# Altium footprint library 晶振.PcbLib: 6 footprints
Each footprint in its own frame and in the unit in brackets; x right, y up, seen from the top. Pads: shape width x height; smd on the part's side, far side on the other; paste and mask are expansions set on the pad; w line width, h text height; cw(c..) or ccw(c..) is an arc to the next point about the centre after c.
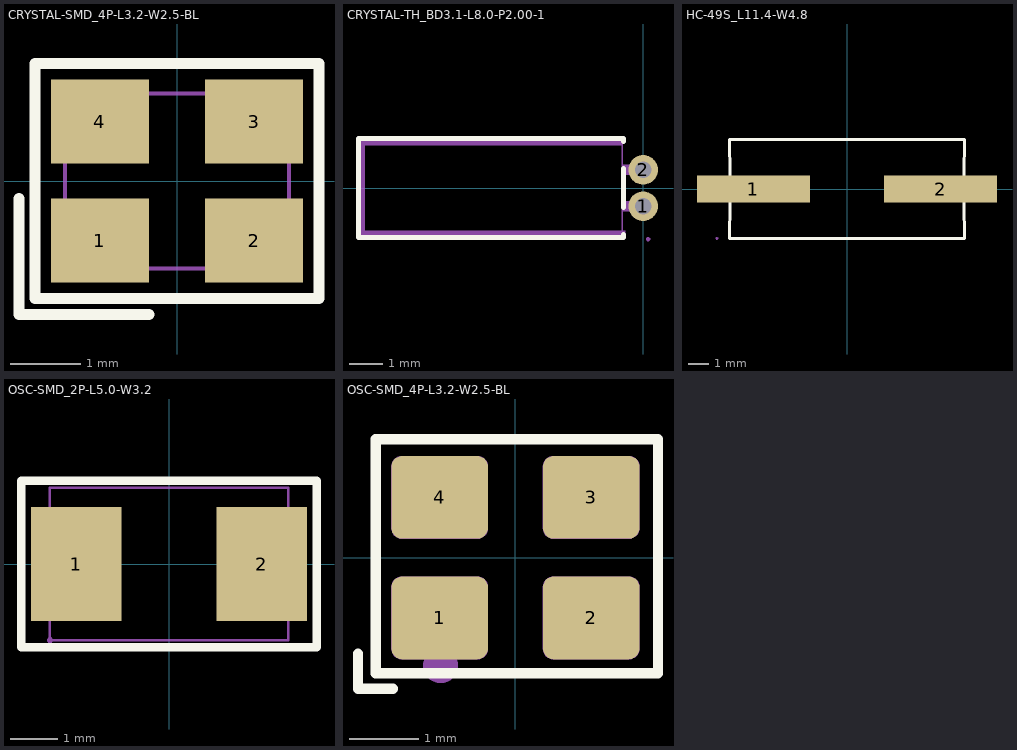
[diagram p0: the footprints below, top view; thin cyan lines are the x and y axes]

## CRYSTAL-SMD_4P-L3.2-W2.5-BL [mm]
pads (4):
  rect 1.4x1.2 smd: 1(-1.1,-0.85) 2(1.1,-0.85) 3(1.1,0.85) 4(-1.1,0.85)
Top Overlay:
  lines w0.152: -2.257,-0.25 -2.257,-1.907 -0.4,-1.907 ; -2.029,-1.678 2.029,-1.678 2.029,1.679 -2.029,1.679 -2.029,-1.678
Mechanical 6:
  circle w0.36: c-1.143,-0.889 r0.18
Mechanical 15:
  region: -1.5,-0.35 -0.6,-0.35 -0.6,-1.15 -1.5,-1.15
  region: 0.6,-0.35 1.5,-0.35 1.5,-1.15 0.6,-1.15
  region: 0.6,1.15 1.5,1.15 1.5,0.35 0.6,0.35
  region: -1.5,1.15 -0.6,1.15 -0.6,0.35 -1.5,0.35
  region: -1.54,-1.25 -1.54,-1.225 -1.575,-1.19 -1.625,-1.19 -1.66,-1.225 -1.66,-1.25 -1.66,-1.275 -1.625,-1.31 -1.575,-1.31 -1.54,-1.275 -1.54,-1.25
  lines w0.051: -1.6,-1.25 1.6,-1.25 1.6,1.25 -1.6,1.25 -1.6,-1.25

## CRYSTAL-TH_BD3.1-L8.0-P2.00-1 [mm]
pads (2):
  round 0.9 hole 0.5 paste+0 mask+0.05: 1(0,-0.55) 2(0,0.55)
Top Overlay:
  lines w0.152: -0.6,-1.414 -0.6,-1.5 -4.064,-1.5 -8.636,-1.5 -8.636,1.5 -4.064,1.5 -0.6,1.5 -0.6,1.414 ; -0.6,-0.586 -0.6,0.586
Mechanical 6:
  region: -0.648,1.5 -8.648,1.5 -8.648,-1.5 -0.548,-1.5 -0.548,-1.3 -8.448,-1.3 -8.448,1.3 -0.648,1.3
Mechanical 15:
  region: 0.21,-1.55 0.21,-1.525 0.175,-1.49 0.125,-1.49 0.09,-1.525 0.09,-1.55 0.09,-1.575 0.125,-1.61 0.175,-1.61 0.21,-1.575 0.21,-1.55
  region: 0.15,0.55 0.15,0.612 0.062,0.7 -0.062,0.7 -0.15,0.612 -0.15,0.55 -0.15,0.488 -0.062,0.4 0.062,0.4 0.15,0.488 0.15,0.55
  region: 0.15,-0.55 0.15,-0.488 0.062,-0.4 -0.062,-0.4 -0.15,-0.488 -0.15,-0.55 -0.15,-0.612 -0.062,-0.7 0.062,-0.7 0.15,-0.612 0.15,-0.55
  region: 0.15,0.4 -0.65,0.4 -0.65,0.7 0.15,0.7
  region: 0.15,-0.7 -0.65,-0.7 -0.65,-0.4 0.15,-0.4
  lines w0.051: -8.636,-1.55 -8.636,1.55 -0.636,1.55 -0.636,-1.55 -8.636,-1.55

## HC-49S_L11.4-W4.8 [mm]
pads (2):
  rect 5.5x1.3 smd: 1(-4.553,0) 2(4.553,0)
Top Overlay:
  lines w0.152: -5.715,-2.413 -5.7,-0.662 -5.715,-2.413 ; -5.715,-2.413 5.715,-2.413 ; -5.715,-2.413 5.715,-2.413 ; -5.715,2.413 5.715,2.413 ; -5.715,2.413 -5.7,0.662 -5.715,2.413 ; -5.715,2.413 5.715,2.413 ; 5.715,-2.413 5.7,-0.662 5.715,-2.413 ; 5.715,2.413 5.7,0.662 5.715,2.413
Mechanical 15:
  region: -6.28,-2.4 -6.28,-2.375 -6.315,-2.34 -6.365,-2.34 -6.4,-2.375 -6.4,-2.4 -6.4,-2.425 -6.365,-2.46 -6.315,-2.46 -6.28,-2.425 -6.28,-2.4
  region: -1.84,-0.4 -6.34,-0.4 -6.34,0.4 -1.84,0.4
  region: 6.34,-0.4 1.84,-0.4 1.84,0.4 6.34,0.4
  lines w0.051: -5.7,-2.4 5.7,-2.4 5.7,2.4 -5.7,2.4 -5.7,-2.4

## OSC-SMD_2P-L5.0-W3.2 [mm]
pads (2):
  rect 1.9x2.4 smd: 1(-1.95,0) 2(1.95,0)
Top Overlay:
  lines w0.18: -3.099,-1.75 3.099,-1.75 3.099,1.75 -3.099,1.75 -3.099,1.4 -3.099,-1.75
Mechanical 15:
  region: -2.44,-1.6 -2.44,-1.575 -2.475,-1.54 -2.525,-1.54 -2.56,-1.575 -2.56,-1.6 -2.56,-1.625 -2.525,-1.66 -2.475,-1.66 -2.44,-1.625 -2.44,-1.6
  region: -1.2,-1 -1.2,1 -2.5,1 -2.5,-1
  region: 1.2,-1 1.2,1 2.5,1 2.5,-1
  lines w0.051: -2.5,-1.6 -2.5,1.6 2.5,1.6 2.5,-1.6 -2.5,-1.6

## OSC-SMD_4P-L3.2-W2.5-BL [mm] "SMD; 3.2mmx2.5mm; -; CDFN-4; DFN-4; SMD3225-4P; SMD-4P; SMD-4; SMD2016-4P; VDFN-4; SMD5032-4P; SMD7050-4P; SMD3225-6P; 3.2x2.5mm; SMD-3225; SMD2520-4P; SMD3225; SMD 3.2x2.5; SMD-3225_4P; SMD_3225; 3225; SMD-3225-4P; OSC-SMD_4P-L3.2-W2.5-BL; SMD-4_3225; OSC3225; CRYSTAL_3225M; OSC3225-4P; 37.125MHz; X_SMD3225; XTAL4-3.2X2.5; OSC-SMD; OSC-4P; OSC-4; XTAL_4PIN; OSC-SMD-4P; OSC-D3225; SMD_ 3225; SMD-4-3225; LC-SMD-3225_4P; &#26230;&#25391;3225; OSC-SMD_4P-L3.2-W2.5; 3225-4P; XTAL_3225; CRYSTAL-SMD_4P-L3.2-W2.5; SMD_3225-4P; XTL-3225_4P; TSX-3225-4; 3225-4; SMD-4P_L3.2-W2.5; XTAL_SMD_4P; SMD-4P,2.5x3.2x1.60P"
height -909.212
pads (4):
  rrect25% 1.4x1.2 smd mask+0.05: 1(-1.1,-0.875) 2(1.1,-0.875) 3(1.1,0.875) 4(-1.1,0.875)
Top Overlay:
  region: -1.54,-1.25 -1.541,-1.238 -1.545,-1.227 -1.55,-1.217 -1.558,-1.207 -1.567,-1.2 -1.577,-1.194 -1.588,-1.191 -1.6,-1.19 -1.612,-1.191 -1.623,-1.194 -1.633,-1.2 -1.642,-1.207 -1.65,-1.217 -1.655,-1.227 -1.659,-1.238 -1.66,-1.25 -1.659,-1.262 -1.655,-1.273 -1.65,-1.283 -1.642,-1.292 -1.633,-1.3 -1.623,-1.305 -1.612,-1.309 -1.6,-1.31 -1.588,-1.309 -1.577,-1.305 -1.567,-1.3 -1.558,-1.292 -1.55,-1.283 -1.545,-1.273 -1.541,-1.262
  lines w0.152: -2.286,-1.397 -2.286,-1.905 -1.778,-1.905 ; -2.029,-1.679 -2.029,1.721 2.071,1.721 2.071,-1.679 -2.029,-1.679
Mechanical 2:
  circle w0.254: c-1.088,-1.567 r0.127
  region: -1.486,-0.428 -1.45,-0.428 -1.45,-1.004 -1.486,-1.004
  region: -1.522,-0.428 -1.486,-0.428 -1.486,-1.004 -1.522,-1.004
  region: -1.558,-0.428 -1.522,-0.428 -1.522,-1.004 -1.558,-1.004
  region: -1.594,-0.464 -1.558,-0.464 -1.558,-1.004 -1.594,-1.004
  region: -1.63,-0.464 -1.594,-0.464 -1.594,-0.572 -1.63,-0.572
  region: -1.666,-0.5 -1.63,-0.5 -1.63,-0.608 -1.666,-0.608
  region: -1.702,-0.536 -1.666,-0.536 -1.666,-0.608 -1.702,-0.608
  region: -1.738,-0.536 -1.702,-0.536 -1.702,-0.608 -1.738,-0.608
  region: -1.206,1.206 -1.206,0.572 -1.079,0.572 -1.079,1.206
  region: -1.468,0.82 -0.833,0.82 -0.833,0.947 -1.468,0.947
Mechanical 9:
  drawing of 4 lines, arcs and shapes, not listed
3D body "OSC-SMD_4P-L3.2-W2.5-H1.0.step": height 1, standoff 0, extent -1.6,-1.25 1.6,1.25

## PCBComponent_1 [mm]